# Altium integrated library Analog Devices Data Converters Digital-to-Analog Converters.IntLib: 2231 symbols (part 88 of 181)
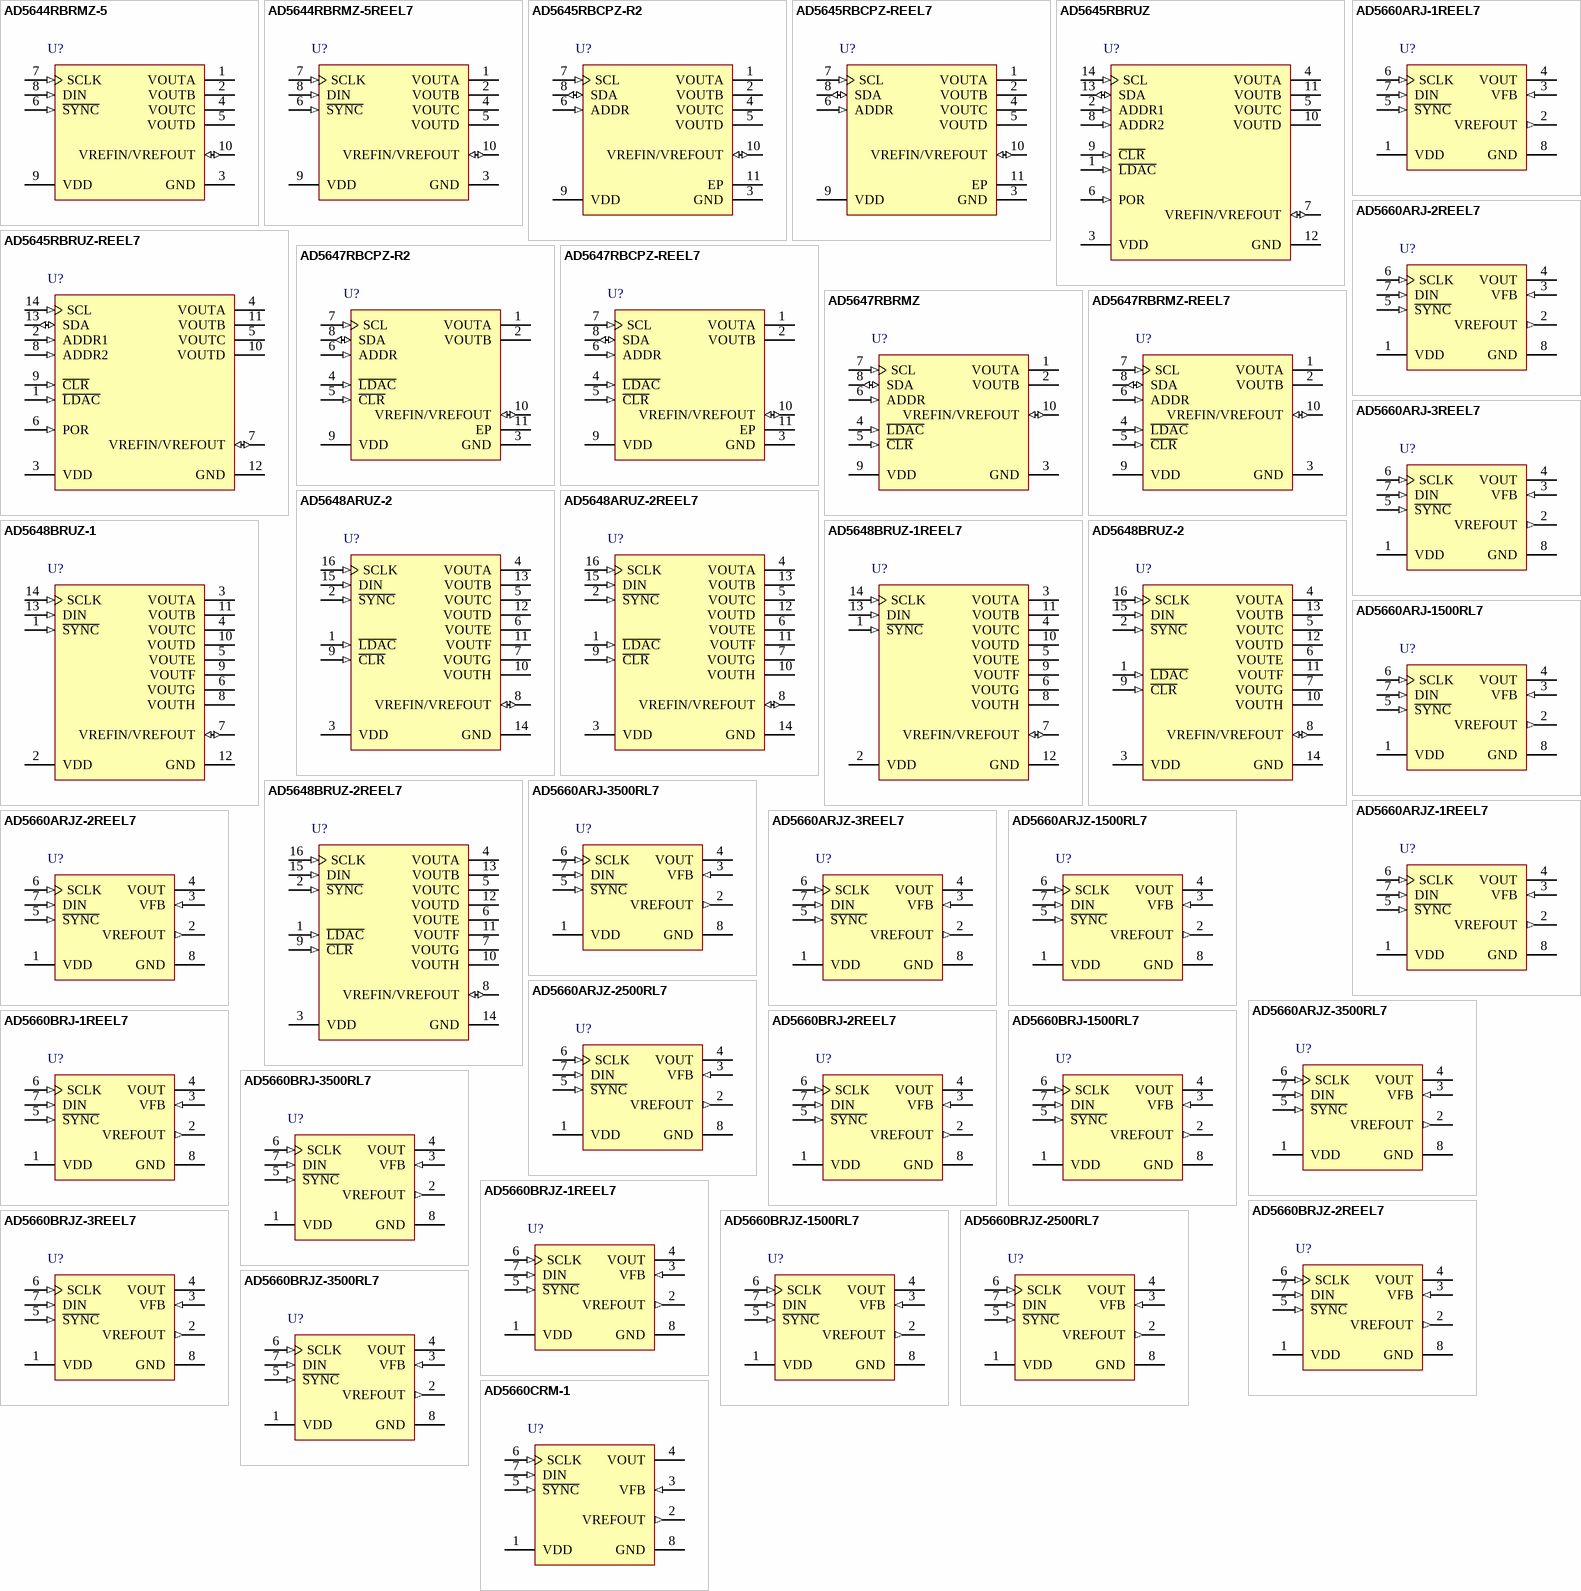
[diagram p201: symbols AD5644RBRMZ-5 to AD5660CRM-1]

## AD5648ARUZ-2
designator U?
Octal 14-Bit Voltage Output denseDAC with SPI Interface and 5 ppm/degC On-Chip Reference, -40 to +105 degC, RU-16, Pb-Free, Tube; Generic Part Number: AD5648; Manufacturer: Analog Devices; PartNumber: AD5648ARUZ-2; # DAC Outputs: 8; Max V+: 5.5V; Op Pwr Diss: 2.15mW; Resolution (Bits): 14; Settling Time: 6µs; Single Supply: Yes; DatasheetVersion: Rev.F; PackageVersion: Nov-2002; PackageReference: RU-16; PackageDescription: 16-Lead Thin Shrink Small Outline Package [TSSOP]; Supplier 1: Digi-Key; Supplier Part Number 1: AD5648ARUZ-2-ND; Supplier 2: Farnell; Supplier Part Number 2: 1438922; Supplier 3: Mouser; Supplier Part Number 3: 584-AD5648ARUZ-2; Packing: Tube; RoHS: Y; Mounting Technology: Surface Mount; Code_JEDEC: MO-153-AB; ComponentLink1Description: Manufacturer URL; ComponentLink1URL: http://www.analog.com/en/index.html; ComponentLink2Description: Datasheet; ComponentLink2URL: http://www.analog.com/static/imported-files/data_sheets/AD5628_5648_5668.pdf; ComponentLink3Description: Package Specification; ComponentLink3URL: http://www.analog.com/static/imported-files/packages/36244347913743854010197452789RU16.pdf; ComponentLink4Description: Product URL; ComponentLink4URL: http://www.analog.com/en/digital-to-analog-converters/da-converters/ad5648/products/product.html
footprint RU-16_N (TSOP, 16-Leads, Body 5x4.4mm, Pitch 0.65mm, IPC Medium Density)
footprint RU-16_L (TSOP, 16-Leads, Body 5x4.4mm, Pitch 0.65mm, IPC High Density)
footprint RU-16_M (TSOP, 16-Leads, Body 5x4.4mm, Pitch 0.65mm, IPC Low Density)
pins: 1 ~{LDAC} (in) "Pulsing this pin low allows any or all DAC registers to be updated if the input registers have new data. This allows all DAC outputs to simultaneously update. Alternatively, this pin can be tied permanently low.", 2 ~{SYNC} (in) "Active Low Control Input. This is the frame synchronization signal for the input data.When S\Y\N\C\ goes low, it powers on the SCLK and DIN buffers and enables the input shift register. Data is transferred in on the falling (See Datasheet)", 3 VDD (power) "Power Supply Input. These parts can be operated from 2.7 V to 5.5 V, and the supply should be decoupled with a 10 µF capacitor in parallel with a 0.1 uF capacitor to GND.", 4 VOUTA (hiz) "Analog Output Voltage from DAC A. The output amplifier has rail-to-rail operation.", 5 VOUTC (hiz) "Analog Output Voltage from DAC C. The output amplifier has rail-to-rail operation.", 6 VOUTE (hiz) "Analog Output Voltage from DAC E. The output amplifier has rail-to-rail operation.", 7 VOUTG (hiz) "Analog Output Voltage from DAC G. The output amplifier has rail-to-rail operation.", 8 VREFIN/VREFOUT (io) "The AD5648 have a common pin for reference input and reference output. When using the internal reference, this is the reference output pin. When using an external reference, this is the reference input pin. The default for (See Datasheet)", 9 ~{CLR} (in) "Asynchronous Clear Input. The C\L\R\ input is falling edge sensitive. When C\L\R\ is low, all L\D\A\C\ pulses are ignored. When C\L\R\ is activated, the input register and the DAC register are updated with the data contained (See Datasheet)", 10 VOUTH (hiz) "Analog Output Voltage from DAC H. The output amplifier has rail-to-rail operation.", 11 VOUTF (hiz) "Analog Output Voltage from DAC F. The output amplifier has rail-to-rail operation.", 12 VOUTD (hiz) "Analog Output Voltage from DAC D. The output amplifier has rail-to-rail operation.", 13 VOUTB (hiz) "Analog Output Voltage from DAC B. The output amplifier has rail-to-rail operation.", 14 GND (power) "Ground Reference Point for All Circuitry on the Part.", 15 DIN (in) "Serial Data Input. This device has a 32-bit shift register. Data is clocked into the register on the falling edge of the serial clock input.", 16 SCLK (in) "Serial Clock Input. Data is clocked into the input shift register on the falling edge of the serial clock input. Data can be transferred at rates of up to 50 MHz."

## AD5648ARUZ-2REEL7
designator U?
Octal 14-Bit Voltage Output denseDAC with SPI Interface and 5 ppm/degC On-Chip Reference, -40 to +105 degC, RU-16, Pb-Free, Reel; Generic Part Number: AD5648; Manufacturer: Analog Devices; PartNumber: AD5648ARUZ-2REEL7; # DAC Outputs: 8; Max V+: 5.5V; Op Pwr Diss: 2.15mW; Resolution (Bits): 14; Settling Time: 6µs; Single Supply: Yes; DatasheetVersion: Rev.F; PackageVersion: Nov-2002; PackageReference: RU-16; PackageDescription: 16-Lead Thin Shrink Small Outline Package [TSSOP]; Supplier 1: Digi-Key; Supplier Part Number 1: AD5648ARUZ-2REEL7-ND; Supplier 2: Mouser; Supplier Part Number 2: 584-AD5648ARUZ-2R7; Packing: Reel; RoHS: Y; Mounting Technology: Surface Mount; Code_JEDEC: MO-153-AB; ComponentLink1Description: Manufacturer URL; ComponentLink1URL: http://www.analog.com/en/index.html; ComponentLink2Description: Datasheet; ComponentLink2URL: http://www.analog.com/static/imported-files/data_sheets/AD5628_5648_5668.pdf; ComponentLink3Description: Package Specification; ComponentLink3URL: http://www.analog.com/static/imported-files/packages/36244347913743854010197452789RU16.pdf; ComponentLink4Description: Product URL; ComponentLink4URL: http://www.analog.com/en/digital-to-analog-converters/da-converters/ad5648/products/product.html
footprint RU-16_N (TSOP, 16-Leads, Body 5x4.4mm, Pitch 0.65mm, IPC Medium Density)
footprint RU-16_L (TSOP, 16-Leads, Body 5x4.4mm, Pitch 0.65mm, IPC High Density)
footprint RU-16_M (TSOP, 16-Leads, Body 5x4.4mm, Pitch 0.65mm, IPC Low Density)
pins: 1 ~{LDAC} (in) "Pulsing this pin low allows any or all DAC registers to be updated if the input registers have new data. This allows all DAC outputs to simultaneously update. Alternatively, this pin can be tied permanently low.", 2 ~{SYNC} (in) "Active Low Control Input. This is the frame synchronization signal for the input data.When S\Y\N\C\ goes low, it powers on the SCLK and DIN buffers and enables the input shift register. Data is transferred in on the falling (See Datasheet)", 3 VDD (power) "Power Supply Input. These parts can be operated from 2.7 V to 5.5 V, and the supply should be decoupled with a 10 µF capacitor in parallel with a 0.1 uF capacitor to GND.", 4 VOUTA (hiz) "Analog Output Voltage from DAC A. The output amplifier has rail-to-rail operation.", 5 VOUTC (hiz) "Analog Output Voltage from DAC C. The output amplifier has rail-to-rail operation.", 6 VOUTE (hiz) "Analog Output Voltage from DAC E. The output amplifier has rail-to-rail operation.", 7 VOUTG (hiz) "Analog Output Voltage from DAC G. The output amplifier has rail-to-rail operation.", 8 VREFIN/VREFOUT (io) "The AD5648 have a common pin for reference input and reference output. When using the internal reference, this is the reference output pin. When using an external reference, this is the reference input pin. The default for (See Datasheet)", 9 ~{CLR} (in) "Asynchronous Clear Input. The C\L\R\ input is falling edge sensitive. When C\L\R\ is low, all L\D\A\C\ pulses are ignored. When C\L\R\ is activated, the input register and the DAC register are updated with the data contained (See Datasheet)", 10 VOUTH (hiz) "Analog Output Voltage from DAC H. The output amplifier has rail-to-rail operation.", 11 VOUTF (hiz) "Analog Output Voltage from DAC F. The output amplifier has rail-to-rail operation.", 12 VOUTD (hiz) "Analog Output Voltage from DAC D. The output amplifier has rail-to-rail operation.", 13 VOUTB (hiz) "Analog Output Voltage from DAC B. The output amplifier has rail-to-rail operation.", 14 GND (power) "Ground Reference Point for All Circuitry on the Part.", 15 DIN (in) "Serial Data Input. This device has a 32-bit shift register. Data is clocked into the register on the falling edge of the serial clock input.", 16 SCLK (in) "Serial Clock Input. Data is clocked into the input shift register on the falling edge of the serial clock input. Data can be transferred at rates of up to 50 MHz."

## AD5648BRUZ-1
designator U?
Octal 14-Bit Voltage Output denseDAC with SPI Interface and 5 ppm/degC On-Chip Reference, -40 to +105 degC, RU-14, Pb-Free, Tube; Generic Part Number: AD5648; Manufacturer: Analog Devices; PartNumber: AD5648BRUZ-1; # DAC Outputs: 8; Max V+: 5.5V; Op Pwr Diss: 2.15mW; Resolution (Bits): 14; Settling Time: 6µs; Single Supply: Yes; DatasheetVersion: Rev.F; PackageVersion: Aug-2002; PackageReference: RU-14; PackageDescription: 14-Lead Thin Shrink Small Outline Package [TSSOP]; Supplier 1: Digi-Key; Supplier Part Number 1: AD5648BRUZ-1-ND; Supplier 2: Newark; Supplier Part Number 2: 58R3887; Supplier 3: Mouser; Supplier Part Number 3: 584-AD5648BRUZ-1; Packing: Tube; RoHS: Y; Mounting Technology: Surface Mount; Code_JEDEC: MO-153-AB-1; ComponentLink1Description: Manufacturer URL; ComponentLink1URL: http://www.analog.com/en/index.html; ComponentLink2Description: Datasheet; ComponentLink2URL: http://www.analog.com/static/imported-files/data_sheets/AD5628_5648_5668.pdf; ComponentLink3Description: Package Specification; ComponentLink3URL: http://www.analog.com/static/imported-files/packages/36057385283879153717235186773RU14.pdf; ComponentLink4Description: Product URL; ComponentLink4URL: http://www.analog.com/en/digital-to-analog-converters/da-converters/ad5648/products/product.html
footprint RU-14_N (TSOP, 14-Leads, Body 5x4.4mm, Pitch 0.65mm, IPC Medium Density)
footprint RU-14_L (TSOP, 14-Leads, Body 5x4.4mm, Pitch 0.65mm, IPC High Density)
footprint RU-14_M (TSOP, 14-Leads, Body 5x4.4mm, Pitch 0.65mm, IPC Low Density)
pins: 1 ~{SYNC} (in) "Active Low Control Input. This is the frame synchronization signal for the input data. When S\Y\N\C\ goes low, it powers on the SCLK and DIN buffers and enables the input shift register. Data is transferred in on the falling (See Datasheet)", 2 VDD (power) "Power Supply Input. These parts can be operated from 2.7 V to 5.5 V, and the supply should be decoupled with a 10 uF capacitor in parallel with a 0.1 uF capacitor to GND.", 3 VOUTA (hiz) "Analog Output Voltage from DAC A. The output amplifier has rail-to-rail operation.", 4 VOUTC (hiz) "Analog Output Voltage from DAC C. The output amplifier has rail-to-rail operation.", 5 VOUTE (hiz) "Analog Output Voltage from DAC E. The output amplifier has rail-to-rail operation.", 6 VOUTG (hiz) "Analog Output Voltage from DAC G. The output amplifier has rail-to-rail operation.", 7 VREFIN/VREFOUT (io) "The AD5668 have a common pin for reference input and reference output. When using the internal reference, this is the reference output pin. When using an external reference, this is the reference input pin. The default for (See Datasheet)", 8 VOUTH (hiz) "Analog Output Voltage from DAC H. The output amplifier has rail-to-rail operation.", 9 VOUTF (hiz) "Analog Output Voltage from DAC F. The output amplifier has rail-to-rail operation.", 10 VOUTD (hiz) "Analog Output Voltage from DAC D. The output amplifier has rail-to-rail operation.", 11 VOUTB (hiz) "Analog Output Voltage from DAC B. The output amplifier has rail-to-rail operation.", 12 GND (power) "Ground Reference Point for All Circuitry on the Part.", 13 DIN (in) "Serial Data Input. This device has a 32-bit shift register. Data is clocked into the register on the falling edge of the serial clock input.", 14 SCLK (in) "Serial Clock Input. Data is clocked into the input shift register on the falling edge of the serial clock input. Data can be transferred at rates of up to 50 MHz."

## AD5648BRUZ-1REEL7
designator U?
Octal 14-Bit Voltage Output denseDAC with SPI Interface and 5 ppm/degC On-Chip Reference, -40 to +105 degC, RU-14, Pb-Free, Reel; Generic Part Number: AD5648; Manufacturer: Analog Devices; PartNumber: AD5648BRUZ-1REEL7; # DAC Outputs: 8; Max V+: 5.5V; Op Pwr Diss: 2.15mW; Resolution (Bits): 14; Settling Time: 6µs; Single Supply: Yes; DatasheetVersion: Rev.F; PackageVersion: Aug-2002; PackageReference: RU-14; PackageDescription: 14-Lead Thin Shrink Small Outline Package [TSSOP]; Supplier 1: Digi-Key; Supplier Part Number 1: AD5648BRUZ-1REEL7-ND; Supplier 2: Mouser; Supplier Part Number 2: 584-AD5648BRUZ-1R7; Packing: Reel; RoHS: Y; Mounting Technology: Surface Mount; Code_JEDEC: MO-153-AB-1; ComponentLink1Description: Manufacturer URL; ComponentLink1URL: http://www.analog.com/en/index.html; ComponentLink2Description: Datasheet; ComponentLink2URL: http://www.analog.com/static/imported-files/data_sheets/AD5628_5648_5668.pdf; ComponentLink3Description: Package Specification; ComponentLink3URL: http://www.analog.com/static/imported-files/packages/36057385283879153717235186773RU14.pdf; ComponentLink4Description: Product URL; ComponentLink4URL: http://www.analog.com/en/digital-to-analog-converters/da-converters/ad5648/products/product.html
footprint RU-14_N (TSOP, 14-Leads, Body 5x4.4mm, Pitch 0.65mm, IPC Medium Density)
footprint RU-14_L (TSOP, 14-Leads, Body 5x4.4mm, Pitch 0.65mm, IPC High Density)
footprint RU-14_M (TSOP, 14-Leads, Body 5x4.4mm, Pitch 0.65mm, IPC Low Density)
pins: 1 ~{SYNC} (in) "Active Low Control Input. This is the frame synchronization signal for the input data. When S\Y\N\C\ goes low, it powers on the SCLK and DIN buffers and enables the input shift register. Data is transferred in on the falling (See Datasheet)", 2 VDD (power) "Power Supply Input. These parts can be operated from 2.7 V to 5.5 V, and the supply should be decoupled with a 10 uF capacitor in parallel with a 0.1 uF capacitor to GND.", 3 VOUTA (hiz) "Analog Output Voltage from DAC A. The output amplifier has rail-to-rail operation.", 4 VOUTC (hiz) "Analog Output Voltage from DAC C. The output amplifier has rail-to-rail operation.", 5 VOUTE (hiz) "Analog Output Voltage from DAC E. The output amplifier has rail-to-rail operation.", 6 VOUTG (hiz) "Analog Output Voltage from DAC G. The output amplifier has rail-to-rail operation.", 7 VREFIN/VREFOUT (io) "The AD5668 have a common pin for reference input and reference output. When using the internal reference, this is the reference output pin. When using an external reference, this is the reference input pin. The default for (See Datasheet)", 8 VOUTH (hiz) "Analog Output Voltage from DAC H. The output amplifier has rail-to-rail operation.", 9 VOUTF (hiz) "Analog Output Voltage from DAC F. The output amplifier has rail-to-rail operation.", 10 VOUTD (hiz) "Analog Output Voltage from DAC D. The output amplifier has rail-to-rail operation.", 11 VOUTB (hiz) "Analog Output Voltage from DAC B. The output amplifier has rail-to-rail operation.", 12 GND (power) "Ground Reference Point for All Circuitry on the Part.", 13 DIN (in) "Serial Data Input. This device has a 32-bit shift register. Data is clocked into the register on the falling edge of the serial clock input.", 14 SCLK (in) "Serial Clock Input. Data is clocked into the input shift register on the falling edge of the serial clock input. Data can be transferred at rates of up to 50 MHz."

## AD5648BRUZ-2
designator U?
Octal 14-Bit Voltage Output denseDAC with SPI Interface and 5 ppm/degC On-Chip Reference, -40 to +105 degC, RU-16, Pb-Free, Tube; Generic Part Number: AD5648; Manufacturer: Analog Devices; PartNumber: AD5648BRUZ-2; # DAC Outputs: 8; Max V+: 5.5V; Op Pwr Diss: 2.15mW; Resolution (Bits): 14; Settling Time: 6µs; Single Supply: Yes; DatasheetVersion: Rev.F; PackageVersion: Nov-2002; PackageReference: RU-16; PackageDescription: 16-Lead Thin Shrink Small Outline Package [TSSOP]; Supplier 1: Digi-Key; Supplier Part Number 1: AD5648BRUZ-2-ND; Supplier 2: Mouser; Supplier Part Number 2: 584-AD5648BRUZ-2; Packing: Tube; RoHS: Y; Mounting Technology: Surface Mount; Code_JEDEC: MO-153-AB; ComponentLink1Description: Manufacturer URL; ComponentLink1URL: http://www.analog.com/en/index.html; ComponentLink2Description: Datasheet; ComponentLink2URL: http://www.analog.com/static/imported-files/data_sheets/AD5628_5648_5668.pdf; ComponentLink3Description: Package Specification; ComponentLink3URL: http://www.analog.com/static/imported-files/packages/36244347913743854010197452789RU16.pdf; ComponentLink4Description: Product URL; ComponentLink4URL: http://www.analog.com/en/digital-to-analog-converters/da-converters/ad5648/products/product.html
footprint RU-16_N (TSOP, 16-Leads, Body 5x4.4mm, Pitch 0.65mm, IPC Medium Density)
footprint RU-16_L (TSOP, 16-Leads, Body 5x4.4mm, Pitch 0.65mm, IPC High Density)
footprint RU-16_M (TSOP, 16-Leads, Body 5x4.4mm, Pitch 0.65mm, IPC Low Density)
pins: 1 ~{LDAC} (in) "Pulsing this pin low allows any or all DAC registers to be updated if the input registers have new data. This allows all DAC outputs to simultaneously update. Alternatively, this pin can be tied permanently low.", 2 ~{SYNC} (in) "Active Low Control Input. This is the frame synchronization signal for the input data.When S\Y\N\C\ goes low, it powers on the SCLK and DIN buffers and enables the input shift register. Data is transferred in on the falling (See Datasheet)", 3 VDD (power) "Power Supply Input. These parts can be operated from 2.7 V to 5.5 V, and the supply should be decoupled with a 10 µF capacitor in parallel with a 0.1 uF capacitor to GND.", 4 VOUTA (hiz) "Analog Output Voltage from DAC A. The output amplifier has rail-to-rail operation.", 5 VOUTC (hiz) "Analog Output Voltage from DAC C. The output amplifier has rail-to-rail operation.", 6 VOUTE (hiz) "Analog Output Voltage from DAC E. The output amplifier has rail-to-rail operation.", 7 VOUTG (hiz) "Analog Output Voltage from DAC G. The output amplifier has rail-to-rail operation.", 8 VREFIN/VREFOUT (io) "The AD5648 have a common pin for reference input and reference output. When using the internal reference, this is the reference output pin. When using an external reference, this is the reference input pin. The default for (See Datasheet)", 9 ~{CLR} (in) "Asynchronous Clear Input. The C\L\R\ input is falling edge sensitive. When C\L\R\ is low, all L\D\A\C\ pulses are ignored. When C\L\R\ is activated, the input register and the DAC register are updated with the data contained (See Datasheet)", 10 VOUTH (hiz) "Analog Output Voltage from DAC H. The output amplifier has rail-to-rail operation.", 11 VOUTF (hiz) "Analog Output Voltage from DAC F. The output amplifier has rail-to-rail operation.", 12 VOUTD (hiz) "Analog Output Voltage from DAC D. The output amplifier has rail-to-rail operation.", 13 VOUTB (hiz) "Analog Output Voltage from DAC B. The output amplifier has rail-to-rail operation.", 14 GND (power) "Ground Reference Point for All Circuitry on the Part.", 15 DIN (in) "Serial Data Input. This device has a 32-bit shift register. Data is clocked into the register on the falling edge of the serial clock input.", 16 SCLK (in) "Serial Clock Input. Data is clocked into the input shift register on the falling edge of the serial clock input. Data can be transferred at rates of up to 50 MHz."

## AD5648BRUZ-2REEL7
designator U?
Octal 14-Bit Voltage Output denseDAC with SPI Interface and 5 ppm/degC On-Chip Reference, -40 to +105 degC, RU-16, Pb-Free, Reel; Generic Part Number: AD5648; Manufacturer: Analog Devices; PartNumber: AD5648BRUZ-2REEL7; # DAC Outputs: 8; Max V+: 5.5V; Op Pwr Diss: 2.15mW; Resolution (Bits): 14; Settling Time: 6µs; Single Supply: Yes; DatasheetVersion: Rev.F; PackageVersion: Nov-2002; PackageReference: RU-16; PackageDescription: 16-Lead Thin Shrink Small Outline Package [TSSOP]; Supplier 1: Digi-Key; Supplier Part Number 1: AD5648BRUZ-2REEL7-ND; Supplier 2: Mouser; Supplier Part Number 2: 584-AD5648BRUZ-2R7; Packing: Reel; RoHS: Y; Mounting Technology: Surface Mount; Code_JEDEC: MO-153-AB; ComponentLink1Description: Manufacturer URL; ComponentLink1URL: http://www.analog.com/en/index.html; ComponentLink2Description: Datasheet; ComponentLink2URL: http://www.analog.com/static/imported-files/data_sheets/AD5628_5648_5668.pdf; ComponentLink3Description: Package Specification; ComponentLink3URL: http://www.analog.com/static/imported-files/packages/36244347913743854010197452789RU16.pdf; ComponentLink4Description: Product URL; ComponentLink4URL: http://www.analog.com/en/digital-to-analog-converters/da-converters/ad5648/products/product.html
footprint RU-16_N (TSOP, 16-Leads, Body 5x4.4mm, Pitch 0.65mm, IPC Medium Density)
footprint RU-16_L (TSOP, 16-Leads, Body 5x4.4mm, Pitch 0.65mm, IPC High Density)
footprint RU-16_M (TSOP, 16-Leads, Body 5x4.4mm, Pitch 0.65mm, IPC Low Density)
pins: 1 ~{LDAC} (in) "Pulsing this pin low allows any or all DAC registers to be updated if the input registers have new data. This allows all DAC outputs to simultaneously update. Alternatively, this pin can be tied permanently low.", 2 ~{SYNC} (in) "Active Low Control Input. This is the frame synchronization signal for the input data.When S\Y\N\C\ goes low, it powers on the SCLK and DIN buffers and enables the input shift register. Data is transferred in on the falling (See Datasheet)", 3 VDD (power) "Power Supply Input. These parts can be operated from 2.7 V to 5.5 V, and the supply should be decoupled with a 10 µF capacitor in parallel with a 0.1 uF capacitor to GND.", 4 VOUTA (hiz) "Analog Output Voltage from DAC A. The output amplifier has rail-to-rail operation.", 5 VOUTC (hiz) "Analog Output Voltage from DAC C. The output amplifier has rail-to-rail operation.", 6 VOUTE (hiz) "Analog Output Voltage from DAC E. The output amplifier has rail-to-rail operation.", 7 VOUTG (hiz) "Analog Output Voltage from DAC G. The output amplifier has rail-to-rail operation.", 8 VREFIN/VREFOUT (io) "The AD5648 have a common pin for reference input and reference output. When using the internal reference, this is the reference output pin. When using an external reference, this is the reference input pin. The default for (See Datasheet)", 9 ~{CLR} (in) "Asynchronous Clear Input. The C\L\R\ input is falling edge sensitive. When C\L\R\ is low, all L\D\A\C\ pulses are ignored. When C\L\R\ is activated, the input register and the DAC register are updated with the data contained (See Datasheet)", 10 VOUTH (hiz) "Analog Output Voltage from DAC H. The output amplifier has rail-to-rail operation.", 11 VOUTF (hiz) "Analog Output Voltage from DAC F. The output amplifier has rail-to-rail operation.", 12 VOUTD (hiz) "Analog Output Voltage from DAC D. The output amplifier has rail-to-rail operation.", 13 VOUTB (hiz) "Analog Output Voltage from DAC B. The output amplifier has rail-to-rail operation.", 14 GND (power) "Ground Reference Point for All Circuitry on the Part.", 15 DIN (in) "Serial Data Input. This device has a 32-bit shift register. Data is clocked into the register on the falling edge of the serial clock input.", 16 SCLK (in) "Serial Clock Input. Data is clocked into the input shift register on the falling edge of the serial clock input. Data can be transferred at rates of up to 50 MHz."

## AD5660ARJ-1REEL7
designator U?
Single 16-Bit nanoDAC with 5 ppm/degC On-Chip Reference, -40 to +105 degC, RJ-8, Reel; Generic Part Number: AD5660; Manufacturer: Analog Devices; PartNumber: AD5660ARJ-1REEL7; # DAC Outputs: 1; Max V+: 5.5V; Op Pwr Diss: 5mW; Resolution (Bits): 16; Settling Time: 8µs; Single Supply: Yes; DatasheetVersion: Rev.F; PackageVersion: 121608-A; PackageReference: RJ-8; PackageDescription: 8-Lead Thin Small Outline Transistor Package [SOT-23]; Supplier 1: Digi-Key; Supplier Part Number 1: AD5660ARJ-1REEL7TR-ND; Supplier 2: Digi-Key; Supplier Part Number 2: AD5660ARJ-1REEL7CT-ND; Supplier 3: Digi-Key; Supplier Part Number 3: AD5660ARJ-1REEL7DKR-ND; Supplier 4: Mouser; Supplier Part Number 4: 584-AD5660ARJ-1R7; Packing: Reel; RoHS: N; Mounting Technology: Surface Mount; Code_JEDEC: MO-178-BA; ComponentLink1Description: Manufacturer URL; ComponentLink1URL: http://www.analog.com/en/index.html; ComponentLink2Description: Datasheet; ComponentLink2URL: http://www.analog.com/static/imported-files/data_sheets/AD5620_5640_5660.pdf; ComponentLink3Description: Package Specification; ComponentLink3URL: http://www.analog.com/static/imported-files/packages/PKG_PDF/SOT-23(RJ)/RJ_8.pdf; ComponentLink4Description: Product URL; ComponentLink4URL: http://www.analog.com/en/digital-to-analog-converters/da-converters/ad5660/products/product.html
footprint RJ-8_N (SOP, 8-Leads, Body 2.9x1.6mm, Pitch 0.65mm, IPC Medium Density)
footprint RJ-8_L (SOP, 8-Leads, Body 2.9x1.6mm, Pitch 0.65mm, IPC High Density)
footprint RJ-8_M (SOP, 8-Leads, Body 2.9x1.6mm, Pitch 0.65mm, IPC Low Density)
pins: 1 VDD (power) "Power Supply Input. These parts can operate from 2.7 V to 5.5 V. VDD should be decoupled to GND.", 2 VREFOUT (out) "Reference Voltage Output.", 3 VFB (in) "Feedback Connection for the Output Amplifier. VFB should be connected to VOUT for normal operation.", 4 VOUT (hiz) "Analog Output Voltage from DAC. The output amplifier has rail-to-rail operation.", 5 ~{SYNC} (in) "Level-Triggered Control Input (Active Low). This is the frame synchronization signal for the input data. When S\Y\N\C\ goes low, it enables the input shift register and data is transferred in on the falling edges of the (See Datasheet)", 6 SCLK (in) "Serial Clock Input. Data is clocked into the input shift register on the falling edge of the serial clock input. Data can be transferred at rates up to 30 MHz.", 7 DIN (in) "Serial Data Input. The AD5660 has a 24-bit shift register, Data is clocked into the register on the falling edge of the serial clock input.", 8 GND (power) "Ground Reference Point for all Circuitry on the Part."

## AD5660ARJ-2REEL7
designator U?
Single 16-Bit nanoDAC with 5 ppm/degC On-Chip Reference, -40 to +105 degC, RJ-8, Reel; Generic Part Number: AD5660; Manufacturer: Analog Devices; PartNumber: AD5660ARJ-2REEL7; # DAC Outputs: 1; Max V+: 5.5V; Op Pwr Diss: 5mW; Resolution (Bits): 16; Settling Time: 8µs; Single Supply: Yes; DatasheetVersion: Rev.F; PackageVersion: 121608-A; PackageReference: RJ-8; PackageDescription: 8-Lead Thin Small Outline Transistor Package [SOT-23]; Supplier 1: Digi-Key; Supplier Part Number 1: AD5660ARJ-2REEL7TR-ND; Supplier 2: Digi-Key; Supplier Part Number 2: AD5660ARJ-2REEL7CT-ND; Supplier 3: Digi-Key; Supplier Part Number 3: AD5660ARJ-2REEL7DKR-ND; Supplier 4: Mouser; Supplier Part Number 4: 584-AD5660ARJ-2R7; Packing: Reel; RoHS: N; Mounting Technology: Surface Mount; Code_JEDEC: MO-178-BA; ComponentLink1Description: Manufacturer URL; ComponentLink1URL: http://www.analog.com/en/index.html; ComponentLink2Description: Datasheet; ComponentLink2URL: http://www.analog.com/static/imported-files/data_sheets/AD5620_5640_5660.pdf; ComponentLink3Description: Package Specification; ComponentLink3URL: http://www.analog.com/static/imported-files/packages/PKG_PDF/SOT-23(RJ)/RJ_8.pdf; ComponentLink4Description: Product URL; ComponentLink4URL: http://www.analog.com/en/digital-to-analog-converters/da-converters/ad5660/products/product.html
footprint RJ-8_N (SOP, 8-Leads, Body 2.9x1.6mm, Pitch 0.65mm, IPC Medium Density)
footprint RJ-8_L (SOP, 8-Leads, Body 2.9x1.6mm, Pitch 0.65mm, IPC High Density)
footprint RJ-8_M (SOP, 8-Leads, Body 2.9x1.6mm, Pitch 0.65mm, IPC Low Density)
pins: 1 VDD (power) "Power Supply Input. These parts can operate from 2.7 V to 5.5 V. VDD should be decoupled to GND.", 2 VREFOUT (out) "Reference Voltage Output.", 3 VFB (in) "Feedback Connection for the Output Amplifier. VFB should be connected to VOUT for normal operation.", 4 VOUT (hiz) "Analog Output Voltage from DAC. The output amplifier has rail-to-rail operation.", 5 ~{SYNC} (in) "Level-Triggered Control Input (Active Low). This is the frame synchronization signal for the input data. When S\Y\N\C\ goes low, it enables the input shift register and data is transferred in on the falling edges of the (See Datasheet)", 6 SCLK (in) "Serial Clock Input. Data is clocked into the input shift register on the falling edge of the serial clock input. Data can be transferred at rates up to 30 MHz.", 7 DIN (in) "Serial Data Input. The AD5660 has a 24-bit shift register, Data is clocked into the register on the falling edge of the serial clock input.", 8 GND (power) "Ground Reference Point for all Circuitry on the Part."

## AD5660ARJ-3REEL7
designator U?
Single 16-Bit nanoDAC with 5 ppm/degC On-Chip Reference, -40 to +105 degC, RJ-8, Reel; Generic Part Number: AD5660; Manufacturer: Analog Devices; PartNumber: AD5660ARJ-3REEL7; # DAC Outputs: 1; Max V+: 5.5V; Op Pwr Diss: 5mW; Resolution (Bits): 16; Settling Time: 8µs; Single Supply: Yes; DatasheetVersion: Rev.F; PackageVersion: 121608-A; PackageReference: RJ-8; PackageDescription: 8-Lead Thin Small Outline Transistor Package [SOT-23]; Supplier 1: Digi-Key; Supplier Part Number 1: AD5660ARJ-3REEL7TR-ND; Supplier 2: Digi-Key; Supplier Part Number 2: AD5660ARJ-3REEL7CT-ND; Supplier 3: Digi-Key; Supplier Part Number 3: AD5660ARJ-3REEL7DKR-ND; Supplier 4: Mouser; Supplier Part Number 4: 584-AD5660ARJ-3R7; Packing: Reel; RoHS: N; Mounting Technology: Surface Mount; Code_JEDEC: MO-178-BA; ComponentLink1Description: Manufacturer URL; ComponentLink1URL: http://www.analog.com/en/index.html; ComponentLink2Description: Datasheet; ComponentLink2URL: http://www.analog.com/static/imported-files/data_sheets/AD5620_5640_5660.pdf; ComponentLink3Description: Package Specification; ComponentLink3URL: http://www.analog.com/static/imported-files/packages/PKG_PDF/SOT-23(RJ)/RJ_8.pdf; ComponentLink4Description: Product URL; ComponentLink4URL: http://www.analog.com/en/digital-to-analog-converters/da-converters/ad5660/products/product.html
footprint RJ-8_N (SOP, 8-Leads, Body 2.9x1.6mm, Pitch 0.65mm, IPC Medium Density)
footprint RJ-8_L (SOP, 8-Leads, Body 2.9x1.6mm, Pitch 0.65mm, IPC High Density)
footprint RJ-8_M (SOP, 8-Leads, Body 2.9x1.6mm, Pitch 0.65mm, IPC Low Density)
pins: 1 VDD (power) "Power Supply Input. These parts can operate from 2.7 V to 5.5 V. VDD should be decoupled to GND.", 2 VREFOUT (out) "Reference Voltage Output.", 3 VFB (in) "Feedback Connection for the Output Amplifier. VFB should be connected to VOUT for normal operation.", 4 VOUT (hiz) "Analog Output Voltage from DAC. The output amplifier has rail-to-rail operation.", 5 ~{SYNC} (in) "Level-Triggered Control Input (Active Low). This is the frame synchronization signal for the input data. When S\Y\N\C\ goes low, it enables the input shift register and data is transferred in on the falling edges of the (See Datasheet)", 6 SCLK (in) "Serial Clock Input. Data is clocked into the input shift register on the falling edge of the serial clock input. Data can be transferred at rates up to 30 MHz.", 7 DIN (in) "Serial Data Input. The AD5660 has a 24-bit shift register, Data is clocked into the register on the falling edge of the serial clock input.", 8 GND (power) "Ground Reference Point for all Circuitry on the Part."

## AD5660ARJ-1500RL7
designator U?
Single 16-Bit nanoDAC with 5 ppm/degC On-Chip Reference, -40 to +105 degC, RJ-8, Reel; Generic Part Number: AD5660; Manufacturer: Analog Devices; PartNumber: AD5660ARJ-1500RL7; # DAC Outputs: 1; Max V+: 5.5V; Op Pwr Diss: 5mW; Resolution (Bits): 16; Settling Time: 8µs; Single Supply: Yes; DatasheetVersion: Rev.F; PackageVersion: 121608-A; PackageReference: RJ-8; PackageDescription: 8-Lead Thin Small Outline Transistor Package [SOT-23]; Supplier 1: Digi-Key; Supplier Part Number 1: AD5660ARJ-1500RL7-ND; Supplier 2: Mouser; Supplier Part Number 2: 584-AD5660ARJ-1500R7; Packing: Reel; RoHS: N; Mounting Technology: Surface Mount; Code_JEDEC: MO-178-BA; ComponentLink1Description: Manufacturer URL; ComponentLink1URL: http://www.analog.com/en/index.html; ComponentLink2Description: Datasheet; ComponentLink2URL: http://www.analog.com/static/imported-files/data_sheets/AD5620_5640_5660.pdf; ComponentLink3Description: Package Specification; ComponentLink3URL: http://www.analog.com/static/imported-files/packages/PKG_PDF/SOT-23(RJ)/RJ_8.pdf; ComponentLink4Description: Product URL; ComponentLink4URL: http://www.analog.com/en/digital-to-analog-converters/da-converters/ad5660/products/product.html
footprint RJ-8_N (SOP, 8-Leads, Body 2.9x1.6mm, Pitch 0.65mm, IPC Medium Density)
footprint RJ-8_L (SOP, 8-Leads, Body 2.9x1.6mm, Pitch 0.65mm, IPC High Density)
footprint RJ-8_M (SOP, 8-Leads, Body 2.9x1.6mm, Pitch 0.65mm, IPC Low Density)
pins: 1 VDD (power) "Power Supply Input. These parts can operate from 2.7 V to 5.5 V. VDD should be decoupled to GND.", 2 VREFOUT (out) "Reference Voltage Output.", 3 VFB (in) "Feedback Connection for the Output Amplifier. VFB should be connected to VOUT for normal operation.", 4 VOUT (hiz) "Analog Output Voltage from DAC. The output amplifier has rail-to-rail operation.", 5 ~{SYNC} (in) "Level-Triggered Control Input (Active Low). This is the frame synchronization signal for the input data. When S\Y\N\C\ goes low, it enables the input shift register and data is transferred in on the falling edges of the (See Datasheet)", 6 SCLK (in) "Serial Clock Input. Data is clocked into the input shift register on the falling edge of the serial clock input. Data can be transferred at rates up to 30 MHz.", 7 DIN (in) "Serial Data Input. The AD5660 has a 24-bit shift register, Data is clocked into the register on the falling edge of the serial clock input.", 8 GND (power) "Ground Reference Point for all Circuitry on the Part."

## AD5660ARJ-3500RL7
designator U?
Single 16-Bit nanoDAC with 5 ppm/degC On-Chip Reference, -40 to +105 degC, RJ-8, Reel; Generic Part Number: AD5660; Manufacturer: Analog Devices; PartNumber: AD5660ARJ-3500RL7; # DAC Outputs: 1; Max V+: 5.5V; Op Pwr Diss: 5mW; Resolution (Bits): 16; Settling Time: 8µs; Single Supply: Yes; DatasheetVersion: Rev.F; PackageVersion: 121608-A; PackageReference: RJ-8; PackageDescription: 8-Lead Thin Small Outline Transistor Package [SOT-23]; Supplier 1: Digi-Key; Supplier Part Number 1: AD5660ARJ-3500RL7-ND; Supplier 2: Mouser; Supplier Part Number 2: 584-AD5660ARJ-3500R7; Packing: Reel; RoHS: N; Mounting Technology: Surface Mount; Code_JEDEC: MO-178-BA; ComponentLink1Description: Manufacturer URL; ComponentLink1URL: http://www.analog.com/en/index.html; ComponentLink2Description: Datasheet; ComponentLink2URL: http://www.analog.com/static/imported-files/data_sheets/AD5620_5640_5660.pdf; ComponentLink3Description: Package Specification; ComponentLink3URL: http://www.analog.com/static/imported-files/packages/PKG_PDF/SOT-23(RJ)/RJ_8.pdf; ComponentLink4Description: Product URL; ComponentLink4URL: http://www.analog.com/en/digital-to-analog-converters/da-converters/ad5660/products/product.html
footprint RJ-8_N (SOP, 8-Leads, Body 2.9x1.6mm, Pitch 0.65mm, IPC Medium Density)
footprint RJ-8_L (SOP, 8-Leads, Body 2.9x1.6mm, Pitch 0.65mm, IPC High Density)
footprint RJ-8_M (SOP, 8-Leads, Body 2.9x1.6mm, Pitch 0.65mm, IPC Low Density)
pins: 1 VDD (power) "Power Supply Input. These parts can operate from 2.7 V to 5.5 V. VDD should be decoupled to GND.", 2 VREFOUT (out) "Reference Voltage Output.", 3 VFB (in) "Feedback Connection for the Output Amplifier. VFB should be connected to VOUT for normal operation.", 4 VOUT (hiz) "Analog Output Voltage from DAC. The output amplifier has rail-to-rail operation.", 5 ~{SYNC} (in) "Level-Triggered Control Input (Active Low). This is the frame synchronization signal for the input data. When S\Y\N\C\ goes low, it enables the input shift register and data is transferred in on the falling edges of the (See Datasheet)", 6 SCLK (in) "Serial Clock Input. Data is clocked into the input shift register on the falling edge of the serial clock input. Data can be transferred at rates up to 30 MHz.", 7 DIN (in) "Serial Data Input. The AD5660 has a 24-bit shift register, Data is clocked into the register on the falling edge of the serial clock input.", 8 GND (power) "Ground Reference Point for all Circuitry on the Part."

## AD5660ARJZ-1REEL7
designator U?
Single 16-Bit nanoDAC with 5 ppm/degC On-Chip Reference, -40 to +105 degC, RJ-8, Pb-Free, Reel; Generic Part Number: AD5660; Manufacturer: Analog Devices; PartNumber: AD5660ARJZ-1REEL7; # DAC Outputs: 1; Max V+: 5.5V; Op Pwr Diss: 5mW; Resolution (Bits): 16; Settling Time: 8µs; Single Supply: Yes; DatasheetVersion: Rev.F; PackageVersion: 121608-A; PackageReference: RJ-8; PackageDescription: 8-Lead Thin Small Outline Transistor Package [SOT-23]; Supplier 1: Digi-Key; Supplier Part Number 1: AD5660ARJZ-1REEL7TR-ND; Supplier 2: Digi-Key; Supplier Part Number 2: AD5660ARJZ-1REEL7CT-ND; Supplier 3: Digi-Key; Supplier Part Number 3: AD5660ARJZ-1REEL7DKR-ND; Supplier 4: Mouser; Supplier Part Number 4: 584-AD5660ARJZ-1R7; Packing: Reel; RoHS: Y; Mounting Technology: Surface Mount; Code_JEDEC: MO-178-BA; ComponentLink1Description: Manufacturer URL; ComponentLink1URL: http://www.analog.com/en/index.html; ComponentLink2Description: Datasheet; ComponentLink2URL: http://www.analog.com/static/imported-files/data_sheets/AD5620_5640_5660.pdf; ComponentLink3Description: Package Specification; ComponentLink3URL: http://www.analog.com/static/imported-files/packages/PKG_PDF/SOT-23(RJ)/RJ_8.pdf; ComponentLink4Description: Product URL; ComponentLink4URL: http://www.analog.com/en/digital-to-analog-converters/da-converters/ad5660/products/product.html
footprint RJ-8_N (SOP, 8-Leads, Body 2.9x1.6mm, Pitch 0.65mm, IPC Medium Density)
footprint RJ-8_L (SOP, 8-Leads, Body 2.9x1.6mm, Pitch 0.65mm, IPC High Density)
footprint RJ-8_M (SOP, 8-Leads, Body 2.9x1.6mm, Pitch 0.65mm, IPC Low Density)
pins: 1 VDD (power) "Power Supply Input. These parts can operate from 2.7 V to 5.5 V. VDD should be decoupled to GND.", 2 VREFOUT (out) "Reference Voltage Output.", 3 VFB (in) "Feedback Connection for the Output Amplifier. VFB should be connected to VOUT for normal operation.", 4 VOUT (hiz) "Analog Output Voltage from DAC. The output amplifier has rail-to-rail operation.", 5 ~{SYNC} (in) "Level-Triggered Control Input (Active Low). This is the frame synchronization signal for the input data. When S\Y\N\C\ goes low, it enables the input shift register and data is transferred in on the falling edges of the (See Datasheet)", 6 SCLK (in) "Serial Clock Input. Data is clocked into the input shift register on the falling edge of the serial clock input. Data can be transferred at rates up to 30 MHz.", 7 DIN (in) "Serial Data Input. The AD5660 has a 24-bit shift register, Data is clocked into the register on the falling edge of the serial clock input.", 8 GND (power) "Ground Reference Point for all Circuitry on the Part."

## AD5660ARJZ-2REEL7
designator U?
Single 16-Bit nanoDAC with 5 ppm/degC On-Chip Reference, -40 to +105 degC, RJ-8, Pb-Free, Reel; Generic Part Number: AD5660; Manufacturer: Analog Devices; PartNumber: AD5660ARJZ-2REEL7; # DAC Outputs: 1; Max V+: 5.5V; Op Pwr Diss: 5mW; Resolution (Bits): 16; Settling Time: 8µs; Single Supply: Yes; DatasheetVersion: Rev.F; PackageVersion: 121608-A; PackageReference: RJ-8; PackageDescription: 8-Lead Thin Small Outline Transistor Package [SOT-23]; Supplier 1: Digi-Key; Supplier Part Number 1: AD5660ARJZ-2REEL7TR-ND; Supplier 2: Digi-Key; Supplier Part Number 2: AD5660ARJZ-2REEL7CT-ND; Supplier 3: Digi-Key; Supplier Part Number 3: AD5660ARJZ-2REEL7DKR-ND; Supplier 4: Newark; Supplier Part Number 4: 52R8131; Supplier 5: Mouser; Supplier Part Number 5: 584-AD5660ARJZ-2R7; Packing: Reel; RoHS: Y; Mounting Technology: Surface Mount; Code_JEDEC: MO-178-BA; ComponentLink1Description: Manufacturer URL; ComponentLink1URL: http://www.analog.com/en/index.html; ComponentLink2Description: Datasheet; ComponentLink2URL: http://www.analog.com/static/imported-files/data_sheets/AD5620_5640_5660.pdf; ComponentLink3Description: Package Specification; ComponentLink3URL: http://www.analog.com/static/imported-files/packages/PKG_PDF/SOT-23(RJ)/RJ_8.pdf; ComponentLink4Description: Product URL; ComponentLink4URL: http://www.analog.com/en/digital-to-analog-converters/da-converters/ad5660/products/product.html
footprint RJ-8_N (SOP, 8-Leads, Body 2.9x1.6mm, Pitch 0.65mm, IPC Medium Density)
footprint RJ-8_L (SOP, 8-Leads, Body 2.9x1.6mm, Pitch 0.65mm, IPC High Density)
footprint RJ-8_M (SOP, 8-Leads, Body 2.9x1.6mm, Pitch 0.65mm, IPC Low Density)
pins: 1 VDD (power) "Power Supply Input. These parts can operate from 2.7 V to 5.5 V. VDD should be decoupled to GND.", 2 VREFOUT (out) "Reference Voltage Output.", 3 VFB (in) "Feedback Connection for the Output Amplifier. VFB should be connected to VOUT for normal operation.", 4 VOUT (hiz) "Analog Output Voltage from DAC. The output amplifier has rail-to-rail operation.", 5 ~{SYNC} (in) "Level-Triggered Control Input (Active Low). This is the frame synchronization signal for the input data. When S\Y\N\C\ goes low, it enables the input shift register and data is transferred in on the falling edges of the (See Datasheet)", 6 SCLK (in) "Serial Clock Input. Data is clocked into the input shift register on the falling edge of the serial clock input. Data can be transferred at rates up to 30 MHz.", 7 DIN (in) "Serial Data Input. The AD5660 has a 24-bit shift register, Data is clocked into the register on the falling edge of the serial clock input.", 8 GND (power) "Ground Reference Point for all Circuitry on the Part."

## AD5660ARJZ-3REEL7
designator U?
Single 16-Bit nanoDAC with 5 ppm/degC On-Chip Reference, -40 to +105 degC, RJ-8, Pb-Free, Reel; Generic Part Number: AD5660; Manufacturer: Analog Devices; PartNumber: AD5660ARJZ-3REEL7; # DAC Outputs: 1; Max V+: 5.5V; Op Pwr Diss: 5mW; Resolution (Bits): 16; Settling Time: 8µs; Single Supply: Yes; DatasheetVersion: Rev.F; PackageVersion: 121608-A; PackageReference: RJ-8; PackageDescription: 8-Lead Thin Small Outline Transistor Package [SOT-23]; Supplier 1: Digi-Key; Supplier Part Number 1: AD5660ARJZ-3REEL7CT-ND; Supplier 2: Digi-Key; Supplier Part Number 2: AD5660ARJZ-3REEL7DKR-ND; Supplier 3: Mouser; Supplier Part Number 3: 584-AD5660ARJZ-3R7; Packing: Reel; RoHS: Y; Mounting Technology: Surface Mount; Code_JEDEC: MO-178-BA; ComponentLink1Description: Manufacturer URL; ComponentLink1URL: http://www.analog.com/en/index.html; ComponentLink2Description: Datasheet; ComponentLink2URL: http://www.analog.com/static/imported-files/data_sheets/AD5620_5640_5660.pdf; ComponentLink3Description: Package Specification; ComponentLink3URL: http://www.analog.com/static/imported-files/packages/PKG_PDF/SOT-23(RJ)/RJ_8.pdf; ComponentLink4Description: Product URL; ComponentLink4URL: http://www.analog.com/en/digital-to-analog-converters/da-converters/ad5660/products/product.html
footprint RJ-8_N (SOP, 8-Leads, Body 2.9x1.6mm, Pitch 0.65mm, IPC Medium Density)
footprint RJ-8_L (SOP, 8-Leads, Body 2.9x1.6mm, Pitch 0.65mm, IPC High Density)
footprint RJ-8_M (SOP, 8-Leads, Body 2.9x1.6mm, Pitch 0.65mm, IPC Low Density)
pins: 1 VDD (power) "Power Supply Input. These parts can operate from 2.7 V to 5.5 V. VDD should be decoupled to GND.", 2 VREFOUT (out) "Reference Voltage Output.", 3 VFB (in) "Feedback Connection for the Output Amplifier. VFB should be connected to VOUT for normal operation.", 4 VOUT (hiz) "Analog Output Voltage from DAC. The output amplifier has rail-to-rail operation.", 5 ~{SYNC} (in) "Level-Triggered Control Input (Active Low). This is the frame synchronization signal for the input data. When S\Y\N\C\ goes low, it enables the input shift register and data is transferred in on the falling edges of the (See Datasheet)", 6 SCLK (in) "Serial Clock Input. Data is clocked into the input shift register on the falling edge of the serial clock input. Data can be transferred at rates up to 30 MHz.", 7 DIN (in) "Serial Data Input. The AD5660 has a 24-bit shift register, Data is clocked into the register on the falling edge of the serial clock input.", 8 GND (power) "Ground Reference Point for all Circuitry on the Part."

## AD5660ARJZ-1500RL7
designator U?
Single 16-Bit nanoDAC with 5 ppm/degC On-Chip Reference, -40 to +105 degC, RJ-8, Pb-Free, Reel; Generic Part Number: AD5660; Manufacturer: Analog Devices; PartNumber: AD5660ARJZ-1500RL7; # DAC Outputs: 1; Max V+: 5.5V; Op Pwr Diss: 5mW; Resolution (Bits): 16; Settling Time: 8µs; Single Supply: Yes; DatasheetVersion: Rev.F; PackageVersion: 121608-A; PackageReference: RJ-8; PackageDescription: 8-Lead Thin Small Outline Transistor Package [SOT-23]; Supplier 1: Digi-Key; Supplier Part Number 1: AD5660ARJZ-1500RL7TR-ND; Supplier 2: Digi-Key; Supplier Part Number 2: AD5660ARJZ-1500RL7CT-ND; Supplier 3: Digi-Key; Supplier Part Number 3: AD5660ARJZ-1500RL7DKR-ND; Supplier 4: Farnell; Supplier Part Number 4: 2147071; Supplier 5: Newark; Supplier Part Number 5: 92T3217; Supplier 6: Newark; Supplier Part Number 6: 12M8619; Supplier 7: Mouser; Supplier Part Number 7: 584-AD5660ARJZ1500R7; Packing: Reel; RoHS: Y; Mounting Technology: Surface Mount; Code_JEDEC: MO-178-BA; ComponentLink1Description: Manufacturer URL; ComponentLink1URL: http://www.analog.com/en/index.html; ComponentLink2Description: Datasheet; ComponentLink2URL: http://www.analog.com/static/imported-files/data_sheets/AD5620_5640_5660.pdf; ComponentLink3Description: Package Specification; ComponentLink3URL: http://www.analog.com/static/imported-files/packages/PKG_PDF/SOT-23(RJ)/RJ_8.pdf; ComponentLink4Description: Product URL; ComponentLink4URL: http://www.analog.com/en/digital-to-analog-converters/da-converters/ad5660/products/product.html
footprint RJ-8_N (SOP, 8-Leads, Body 2.9x1.6mm, Pitch 0.65mm, IPC Medium Density)
footprint RJ-8_L (SOP, 8-Leads, Body 2.9x1.6mm, Pitch 0.65mm, IPC High Density)
footprint RJ-8_M (SOP, 8-Leads, Body 2.9x1.6mm, Pitch 0.65mm, IPC Low Density)
pins: 1 VDD (power) "Power Supply Input. These parts can operate from 2.7 V to 5.5 V. VDD should be decoupled to GND.", 2 VREFOUT (out) "Reference Voltage Output.", 3 VFB (in) "Feedback Connection for the Output Amplifier. VFB should be connected to VOUT for normal operation.", 4 VOUT (hiz) "Analog Output Voltage from DAC. The output amplifier has rail-to-rail operation.", 5 ~{SYNC} (in) "Level-Triggered Control Input (Active Low). This is the frame synchronization signal for the input data. When S\Y\N\C\ goes low, it enables the input shift register and data is transferred in on the falling edges of the (See Datasheet)", 6 SCLK (in) "Serial Clock Input. Data is clocked into the input shift register on the falling edge of the serial clock input. Data can be transferred at rates up to 30 MHz.", 7 DIN (in) "Serial Data Input. The AD5660 has a 24-bit shift register, Data is clocked into the register on the falling edge of the serial clock input.", 8 GND (power) "Ground Reference Point for all Circuitry on the Part."

## AD5660ARJZ-2500RL7
designator U?
Single 16-Bit nanoDAC with 5 ppm/degC On-Chip Reference, -40 to +105 degC, RJ-8, Pb-Free, Reel; Generic Part Number: AD5660; Manufacturer: Analog Devices; PartNumber: AD5660ARJZ-2500RL7; # DAC Outputs: 1; Max V+: 5.5V; Op Pwr Diss: 5mW; Resolution (Bits): 16; Settling Time: 8µs; Single Supply: Yes; DatasheetVersion: Rev.F; PackageVersion: 121608-A; PackageReference: RJ-8; PackageDescription: 8-Lead Thin Small Outline Transistor Package [SOT-23]; Supplier 1: Digi-Key; Supplier Part Number 1: AD5660ARJZ-2500RL7TR-ND; Supplier 2: Digi-Key; Supplier Part Number 2: AD5660ARJZ-2500RL7CT-ND; Supplier 3: Digi-Key; Supplier Part Number 3: AD5660ARJZ-2500RL7DKR-ND; Supplier 4: Farnell; Supplier Part Number 4: 2094211; Supplier 5: Newark; Supplier Part Number 5: 92T3218; Supplier 6: Newark; Supplier Part Number 6: 50M0811; Supplier 7: Mouser; Supplier Part Number 7: 584-AD5660ARJZ2500R7; Packing: Reel; RoHS: Y; Mounting Technology: Surface Mount; Code_JEDEC: MO-178-BA; ComponentLink1Description: Manufacturer URL; ComponentLink1URL: http://www.analog.com/en/index.html; ComponentLink2Description: Datasheet; ComponentLink2URL: http://www.analog.com/static/imported-files/data_sheets/AD5620_5640_5660.pdf; ComponentLink3Description: Package Specification; ComponentLink3URL: http://www.analog.com/static/imported-files/packages/PKG_PDF/SOT-23(RJ)/RJ_8.pdf; ComponentLink4Description: Product URL; ComponentLink4URL: http://www.analog.com/en/digital-to-analog-converters/da-converters/ad5660/products/product.html
footprint RJ-8_N (SOP, 8-Leads, Body 2.9x1.6mm, Pitch 0.65mm, IPC Medium Density)
footprint RJ-8_L (SOP, 8-Leads, Body 2.9x1.6mm, Pitch 0.65mm, IPC High Density)
footprint RJ-8_M (SOP, 8-Leads, Body 2.9x1.6mm, Pitch 0.65mm, IPC Low Density)
pins: 1 VDD (power) "Power Supply Input. These parts can operate from 2.7 V to 5.5 V. VDD should be decoupled to GND.", 2 VREFOUT (out) "Reference Voltage Output.", 3 VFB (in) "Feedback Connection for the Output Amplifier. VFB should be connected to VOUT for normal operation.", 4 VOUT (hiz) "Analog Output Voltage from DAC. The output amplifier has rail-to-rail operation.", 5 ~{SYNC} (in) "Level-Triggered Control Input (Active Low). This is the frame synchronization signal for the input data. When S\Y\N\C\ goes low, it enables the input shift register and data is transferred in on the falling edges of the (See Datasheet)", 6 SCLK (in) "Serial Clock Input. Data is clocked into the input shift register on the falling edge of the serial clock input. Data can be transferred at rates up to 30 MHz.", 7 DIN (in) "Serial Data Input. The AD5660 has a 24-bit shift register, Data is clocked into the register on the falling edge of the serial clock input.", 8 GND (power) "Ground Reference Point for all Circuitry on the Part."